# EAGLE library part CONN_PINHEADER-2X10 (library psas)
2mm pitch double row pinheader 2x10
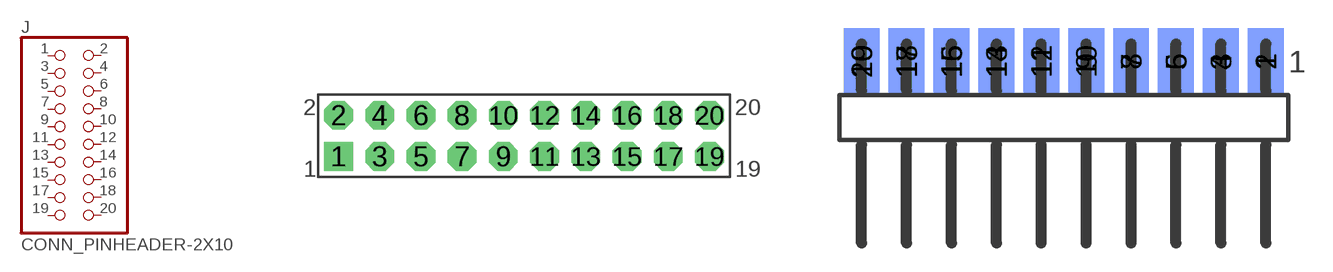
[diagram p3: symbol with the pads of 2MM-2X10-HEADER; footprints 2MM-2X10-HEADER, 0.1_IN-PINHD-2X20-EDGEON]

Designator prefix J

## CONN_PINHEADER-2X10-2MM  [2MM-2X10-HEADER]
1  1  pas
2  2  pas
3  3  pas
4  4  pas
5  5  pas
6  6  pas
7  7  pas
8  8  pas
9  9  pas
10  10  pas
11  11  pas
12  12  pas
13  13  pas
14  14  pas
15  15  pas
16  16  pas
17  17  pas
18  18  pas
19  19  pas
20  20  pas

## CONN_PINHEADER-2X10-0.1_EDGEON  [0.1_IN-PINHD-2X20-EDGEON]
Pads as for 2MM-2X10-HEADER

## Footprint 2MM-2X10-HEADER (pad centres in mm)
2mm -- 2 x 10 Pin Header 0.035" drill
drill 0.889 pad 1.372 square: 1 -9,-1
drill 0.889 pad 1.372 octagon: 2 -9,1; 3 -7,-1; 4 -7,1; 5 -5,-1; 6 -5,1; 7 -3,-1; 8 -3,1; 9 -1,-1; 10 -1,1; 11 1,-1; 12 1,1; 13 3,-1; 14 3,1; 15 5,-1; 16 5,1; 17 7,-1; 18 7,1; 19 9,-1; 20 9,1

## Footprint 0.1_IN-PINHD-2X20-EDGEON (pad centres in mm)
Standard 0.1" pinheader attaches to edge of PCB Ideal for 0.075" thick PCB, acceptable for 0.05" material if pins are bent over slightly.
smd 2.032 x 3.81: 1 11.43,1.905; 3 8.89,1.905; 5 6.35,1.905; 7 3.81,1.905; 9 1.27,1.905; 11 -1.27,1.905; 13 -3.81,1.905; 15 -6.35,1.905; 17 -8.89,1.905; 19 -11.43,1.905
smd 2.032 x 3.81 bottom: 2 11.43,1.905; 4 8.89,1.905; 6 6.35,1.905; 8 3.81,1.905; 10 1.27,1.905; 12 -1.27,1.905; 14 -3.81,1.905; 16 -6.35,1.905; 18 -8.89,1.905; 20 -11.43,1.905